# Altium footprint library CON1X14_2.54_RA_FM.PcbLib: 1 footprints
Each footprint in its own frame and in the unit in brackets; x right, y up, seen from the top. Pads: shape width x height; smd on the part's side, far side on the other; paste and mask are expansions set on the pad; w line width, h text height; cw(c..) or ccw(c..) is an arc to the next point about the centre after c.
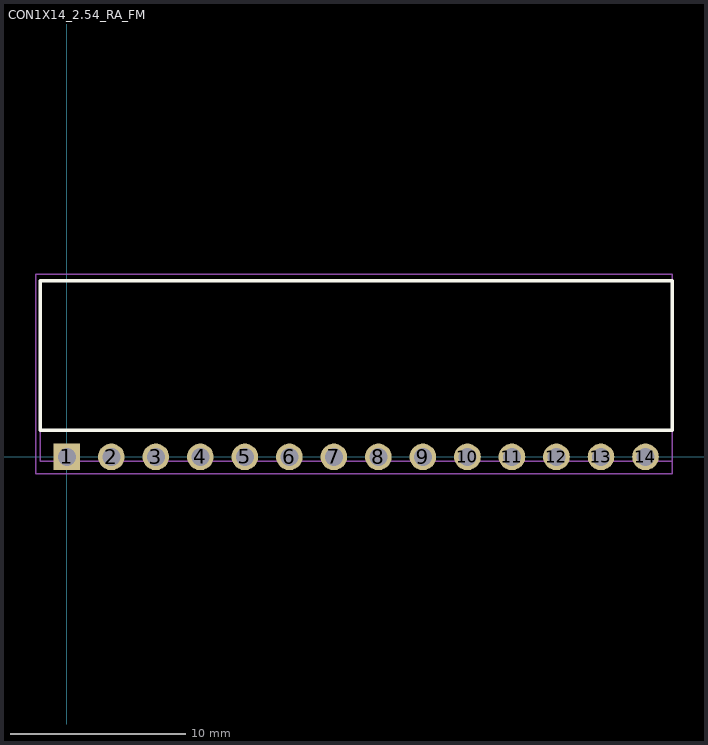
[diagram p0: the footprint, top view; thin cyan lines are the x and y axes]

## CON1X14_2.54_RA_FM [mm] "Pitch 2.54mm Right Angle, PTH, 1x14Position"
height 2.54
pads (14):
  rect 1.52x1.52 hole 1.02: 1(0,0)
  round 1.52 hole 1.02: 2(2.54,0) 3(5.08,0) 4(7.62,0) 5(10.16,0) 6(12.7,0) 7(15.24,0) 8(17.78,0) 9(20.32,0) 10(22.86,0) 11(25.4,0) 12(27.94,0) 13(30.48,0) 14(33.02,0)
Top Overlay:
  lines w0.2: -1.524,1.524 34.544,1.524 34.544,10.046 -1.524,10.046 -1.524,1.524
Mechanical 13:
  lines w0.1: -1.52,-0.254 34.544,-0.254 34.544,10.046 -1.52,10.046 -1.52,-0.254
Mechanical 15:
  lines w0.1: -1.77,-0.96 34.544,-0.96 34.544,10.423 -1.77,10.423 -1.77,-0.96
3D body: height 2.51, standoff -3.08, extent -1.516,-0.07 34.544,10.23